# EAGLE library part FDC6420C (library NEON-BLADE-2023)
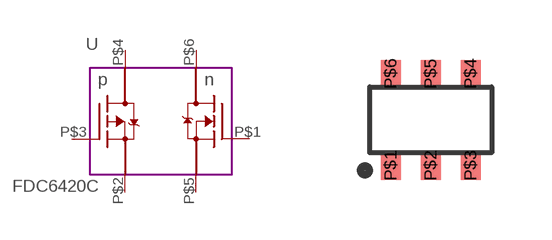
[diagram p41: symbol with the pads of TSOP-6; footprint TSOP-6]

Designator prefix -

## FDC6420C  [TSOP-6]
P$1  NG  pas
P$2  PS  pas
P$3  PG  pas
P$4  PD  pas
P$5  NS  pas
P$6  ND  pas

## Footprint TSOP-6 (pad centres in mm)
smd 0.5 x 0.7: P$1 -1,-1.15; P$2 0,-1.15; P$3 1,-1.15; P$4 1,1.15; P$5 0,1.15; P$6 -1,1.15